# EAGLE library part L07P (library con-amp-mt)
AMP MT CONNECTOR
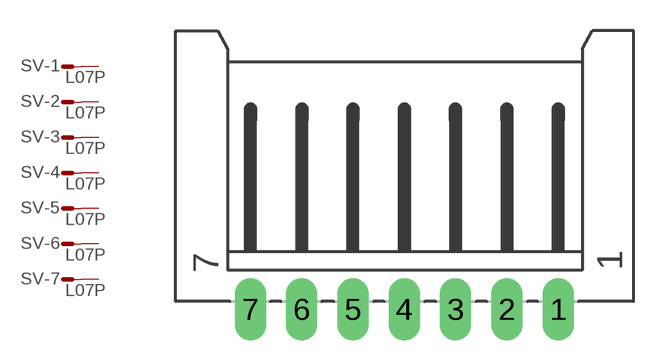
[diagram p11: symbol with the pads of L07P; footprint L07P]

Designator prefix SV; gates -1=M -2=M -3=M -4=M -5=M -6=M -7=M

## L07P (OC_FARNELL: unknown; OC_NEWARK: unknown)  [L07P]
1  -1:S  pas
2  -2:S  pas
3  -3:S  pas
4  -4:S  pas
5  -5:S  pas
6  -6:S  pas
7  -7:S  pas

## Footprint L07P (pad centres in mm)
AMP MT CONNECTOR
drill 1.016 long: 1 7.5,-6.25; 2 5,-6.25; 3 2.5,-6.25; 4 0,-6.25; 5 -2.5,-6.25; 6 -5,-6.25; 7 -7.5,-6.25